# Altium integrated library Microchip Microcontroller 8-Bit PIC16.IntLib: 1529 symbols (part 23 of 55)
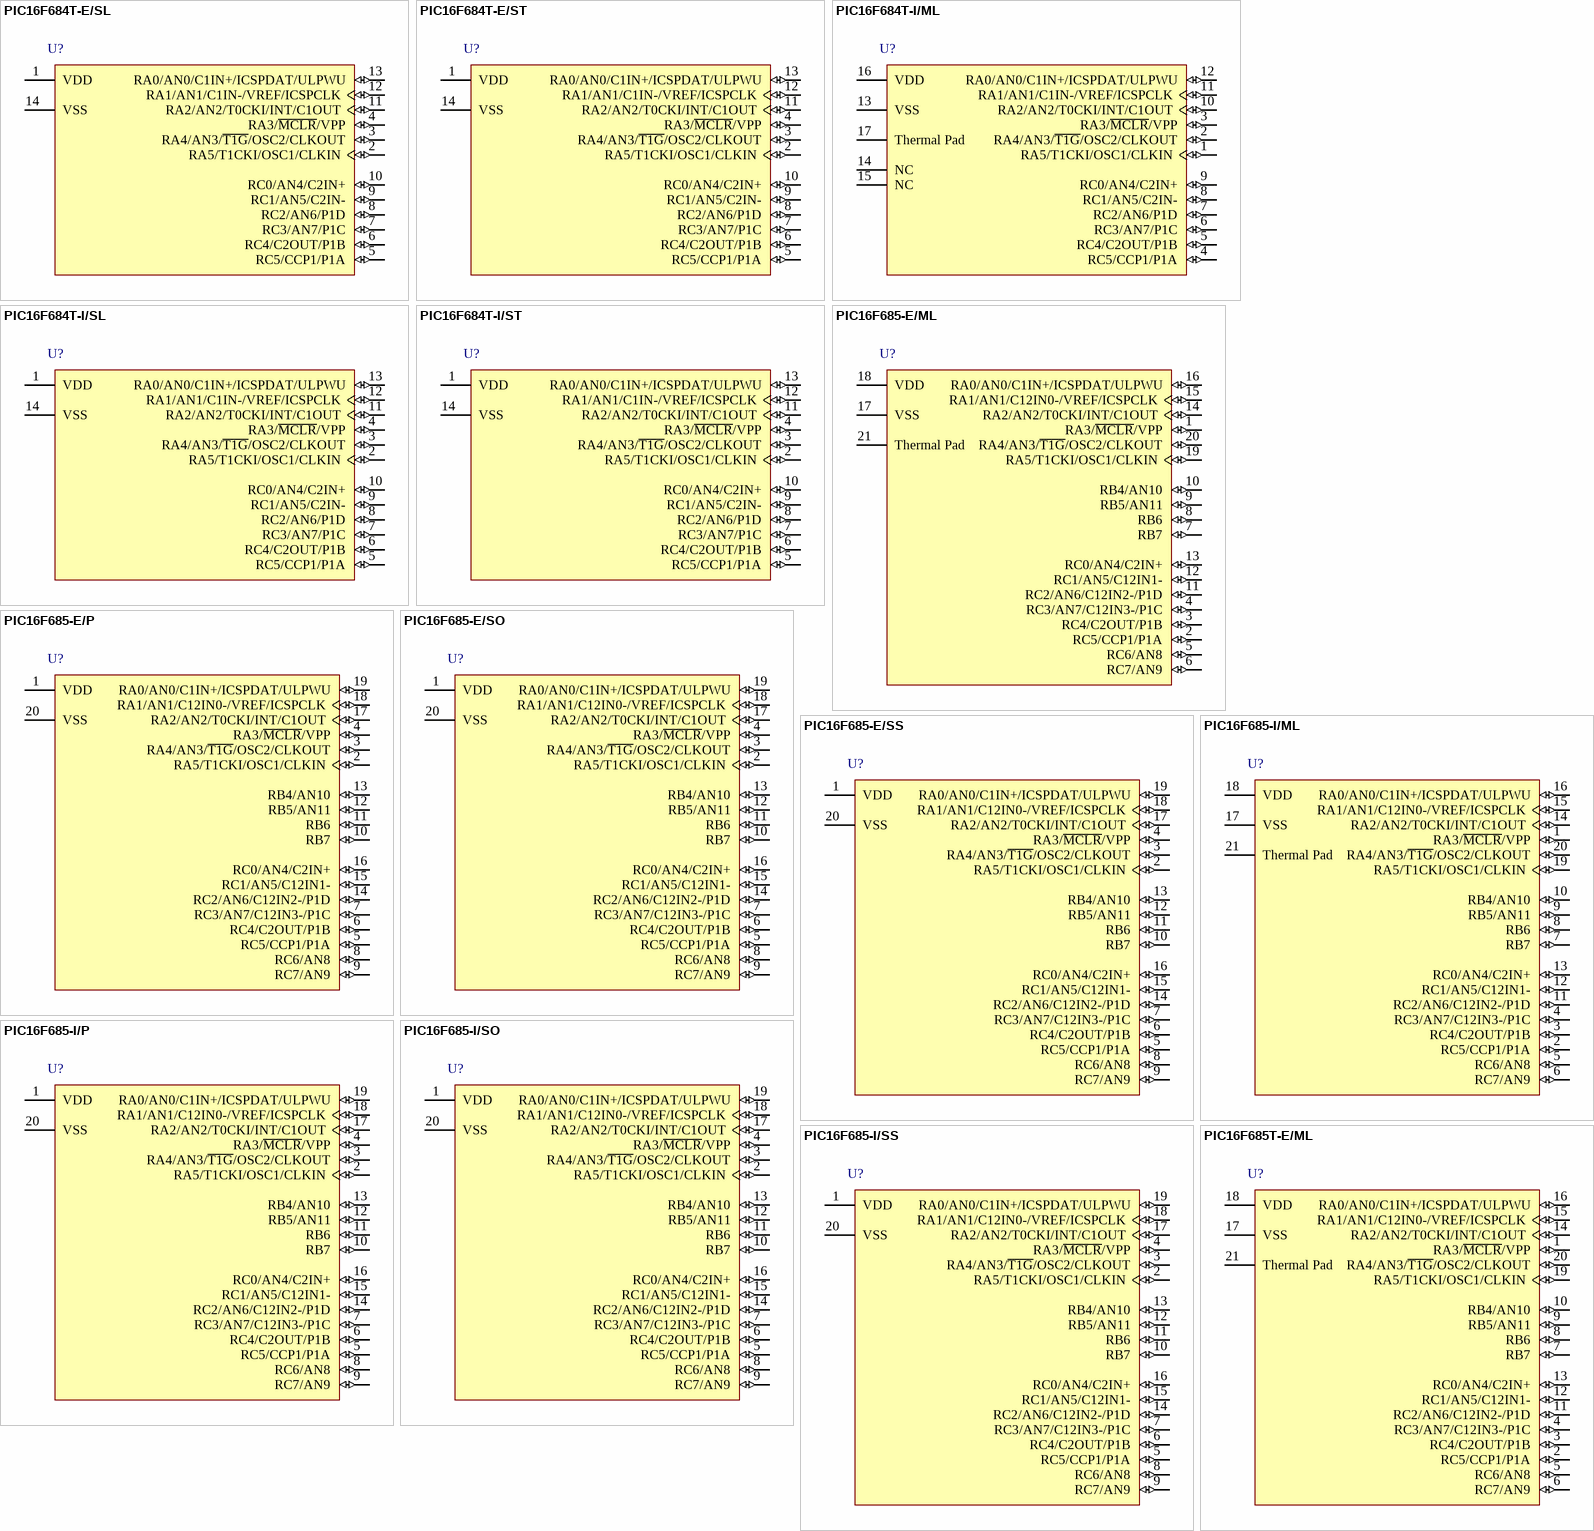
[diagram p140: symbols PIC16F684T-E/SL to PIC16F685T-E/ML]

## PIC16F685-I/P
designator U?
Flash-Based, 8-Bit CMOS Microcontroller with nanoWatt Technology, 4K (x14-Bit words) Program Memory, 512 Bytes Data Memory, 18 I/O pins, 20-Pin PDIP, Standard VDD Range, Industrial Temperature; Published: 29-Jan-2009; DatasheetVersion: revE, Mar-2008; PackageVersion: revBB, Aug-2009; PackageReference: PDIP300-P20; Publisher: Altium Limited; PackageDescription: 20-Lead Plastic Dual In-Line (P) - 300 mil Body [PDIP]; Supplier 1: Digi-Key; Supplier Part Number 1: PIC16F685-I/P-ND; Supplier 2: Farnell; Supplier Part Number 2: 1103399; ComponentLink1Description: Datasheet; ComponentLink1URL: http://ww1.microchip.com/downloads/en/DeviceDoc/41262E.pdf; ComponentLink2Description: Packaging Specification; ComponentLink2URL: http://www.microchip.com/stellent/groups/techpub_sg/documents/packagingspec/en012702.pdf; ComponentLink3Description: Microchip.com Home; ComponentLink3URL: http://www.microchip.com/
footprint PDIP300-P20 (DIP, 20-Leads, Row Spacing 7.62mm, Pitch 2.54mm, Body 25.9x6.6mm)
pins: 1 VDD (power), 2 RA5/T1CKI/OSC1/CLKIN (io), 3 RA4/AN3/~{T1G}/OSC2/CLKOUT (io), 4 RA3/~{MCLR}/VPP (io), 5 RC5/CCP1/P1A (io), 6 RC4/C2OUT/P1B (io), 7 RC3/AN7/C12IN3-/P1C (io), 8 RC6/AN8 (io), 9 RC7/AN9 (io), 10 RB7 (io), 11 RB6 (io), 12 RB5/AN11 (io), 13 RB4/AN10 (io), 14 RC2/AN6/C12IN2-/P1D (io), 15 RC1/AN5/C12IN1- (io), 16 RC0/AN4/C2IN+ (io), 17 RA2/AN2/T0CKI/INT/C1OUT (io), 18 RA1/AN1/C12IN0-/VREF/ICSPCLK (io), 19 RA0/AN0/C1IN+/ICSPDAT/ULPWU (io), 20 VSS (power)

## PIC16F685-I/SO
designator U?
Flash-Based, 8-Bit CMOS Microcontroller with nanoWatt Technology, 4K (x14-Bit words) Program Memory, 512 Bytes Data Memory, 18 I/O pins, 20-Pin SOIC, Standard VDD Range, Industrial Temperature; Published: 29-Jan-2009; DatasheetVersion: revE, Mar-2008; PackageVersion: revBB, Aug-2009; PackageReference: SOIC-SO20; Publisher: Altium Limited; PackageDescription: 20-Lead Plastic Small Outline (SO) - Wide 7.50mm Body [SOIC]; Supplier 1: Digi-Key; Supplier Part Number 1: PIC16F685-I/SO-ND; Supplier 2: Farnell; Supplier Part Number 2: 1332210; Code_JEDEC: MS-013-AC; Code_IPC: SOIC127P1030-20; ComponentLink1Description: Datasheet; ComponentLink1URL: http://ww1.microchip.com/downloads/en/DeviceDoc/41262E.pdf; ComponentLink2Description: Packaging Specification; ComponentLink2URL: http://www.microchip.com/stellent/groups/techpub_sg/documents/packagingspec/en012702.pdf; ComponentLink3Description: Microchip.com Home; ComponentLink3URL: http://www.microchip.com/
footprint SOIC-SO20_N (SOIC, 20-Leads, Body 12.8x7.5mm, Pitch 1.27mm, IPC Medium Density)
footprint SOIC-SO20_L (SOIC, 20-Leads, Body 12.8x7.5mm, Pitch 1.27mm, IPC High Density)
footprint SOIC-SO20_M (SOIC, 20-Leads, Body 12.8x7.5mm, Pitch 1.27mm, IPC Low Density)
pins: 1 VDD (power), 2 RA5/T1CKI/OSC1/CLKIN (io), 3 RA4/AN3/~{T1G}/OSC2/CLKOUT (io), 4 RA3/~{MCLR}/VPP (io), 5 RC5/CCP1/P1A (io), 6 RC4/C2OUT/P1B (io), 7 RC3/AN7/C12IN3-/P1C (io), 8 RC6/AN8 (io), 9 RC7/AN9 (io), 10 RB7 (io), 11 RB6 (io), 12 RB5/AN11 (io), 13 RB4/AN10 (io), 14 RC2/AN6/C12IN2-/P1D (io), 15 RC1/AN5/C12IN1- (io), 16 RC0/AN4/C2IN+ (io), 17 RA2/AN2/T0CKI/INT/C1OUT (io), 18 RA1/AN1/C12IN0-/VREF/ICSPCLK (io), 19 RA0/AN0/C1IN+/ICSPDAT/ULPWU (io), 20 VSS (power)

## PIC16F685-I/SS
designator U?
Flash-Based, 8-Bit CMOS Microcontroller with nanoWatt Technology, 4K (x14-Bit words) Program Memory, 512 Bytes Data Memory, 18 I/O pins, 20-Pin SSOP, Standard VDD Range, Industrial Temperature; Published: 29-Jan-2009; DatasheetVersion: revE, Mar-2008; PackageVersion: revBB, Aug-2009; PackageReference: SSOP-SS20; Publisher: Altium Limited; PackageDescription: 20-Lead Plastic Shrink Small Outline (SS) - 5.3mm Body [SSOP]; Supplier 1: Digi-Key; Supplier Part Number 1: PIC16F685-I/SS-ND; Supplier 2: Farnell; Supplier Part Number 2: 1103400; Code_JEDEC: MO-150; Code_IPC: SOP65P780-20; ComponentLink1Description: Datasheet; ComponentLink1URL: http://ww1.microchip.com/downloads/en/DeviceDoc/41262E.pdf; ComponentLink2Description: Packaging Specification; ComponentLink2URL: http://www.microchip.com/stellent/groups/techpub_sg/documents/packagingspec/en012702.pdf; ComponentLink3Description: Microchip.com Home; ComponentLink3URL: http://www.microchip.com/
footprint SSOP-SS20_N (SOP, 20-Leads, Body 7.2x5.2mm, Pitch 0.65mm, IPC Medium Density)
footprint SSOP-SS20_L (SOP, 20-Leads, Body 7.2x5.2mm, Pitch 0.65mm, IPC High Density)
footprint SSOP-SS20_M (SOP, 20-Leads, Body 7.2x5.2mm, Pitch 0.65mm, IPC Low Density)
pins: 1 VDD (power), 2 RA5/T1CKI/OSC1/CLKIN (io), 3 RA4/AN3/~{T1G}/OSC2/CLKOUT (io), 4 RA3/~{MCLR}/VPP (io), 5 RC5/CCP1/P1A (io), 6 RC4/C2OUT/P1B (io), 7 RC3/AN7/C12IN3-/P1C (io), 8 RC6/AN8 (io), 9 RC7/AN9 (io), 10 RB7 (io), 11 RB6 (io), 12 RB5/AN11 (io), 13 RB4/AN10 (io), 14 RC2/AN6/C12IN2-/P1D (io), 15 RC1/AN5/C12IN1- (io), 16 RC0/AN4/C2IN+ (io), 17 RA2/AN2/T0CKI/INT/C1OUT (io), 18 RA1/AN1/C12IN0-/VREF/ICSPCLK (io), 19 RA0/AN0/C1IN+/ICSPDAT/ULPWU (io), 20 VSS (power)

## PIC16F685T-E/ML
designator U?
Flash-Based, 8-Bit CMOS Microcontroller with nanoWatt Technology, 4K (x14-Bit words) Program Memory, 512 Bytes Data Memory, 18 I/O pins, 20-Pin QFN, Standard VDD Range, Extended Temperature, Tape and Reel; Published: 29-Jan-2009; DatasheetVersion: revE, Mar-2008; PackageVersion: revBB, Aug-2009; PackageReference: QFN-ML20; Publisher: Altium Limited; PackageDescription: 20-Lead Plastic Quad Flat, No Lead Package (ML) - 4x4x0.9 mm Body [QFN]; ComponentLink1Description: Datasheet; ComponentLink1URL: http://ww1.microchip.com/downloads/en/DeviceDoc/41262E.pdf; ComponentLink2Description: Packaging Specification; ComponentLink2URL: http://www.microchip.com/stellent/groups/techpub_sg/documents/packagingspec/en012702.pdf; ComponentLink3Description: Microchip.com Home; ComponentLink3URL: http://www.microchip.com/
footprint QFN-ML20_N (QFN, 20-Leads, Body 4x4mm, Pitch 0.5mm, IPC Medium Density)
footprint QFN-ML20_L (QFN, 20-Leads, Body 4x4mm, Pitch 0.5mm, IPC High Density)
footprint QFN-ML20_M (QFN, 20-Leads, Body 4x4mm, Pitch 0.5mm, IPC Low Density)
pins: 1 RA3/~{MCLR}/VPP (io), 2 RC5/CCP1/P1A (io), 3 RC4/C2OUT/P1B (io), 4 RC3/AN7/C12IN3-/P1C (io), 5 RC6/AN8 (io), 6 RC7/AN9 (io), 7 RB7 (io), 8 RB6 (io), 9 RB5/AN11 (io), 10 RB4/AN10 (io), 11 RC2/AN6/C12IN2-/P1D (io), 12 RC1/AN5/C12IN1- (io), 13 RC0/AN4/C2IN+ (io), 14 RA2/AN2/T0CKI/INT/C1OUT (io), 15 RA1/AN1/C12IN0-/VREF/ICSPCLK (io), 16 RA0/AN0/C1IN+/ICSPDAT/ULPWU (io), 17 VSS (power), 18 VDD (power), 19 RA5/T1CKI/OSC1/CLKIN (io), 20 RA4/AN3/~{T1G}/OSC2/CLKOUT (io), 21 Thermal Pad

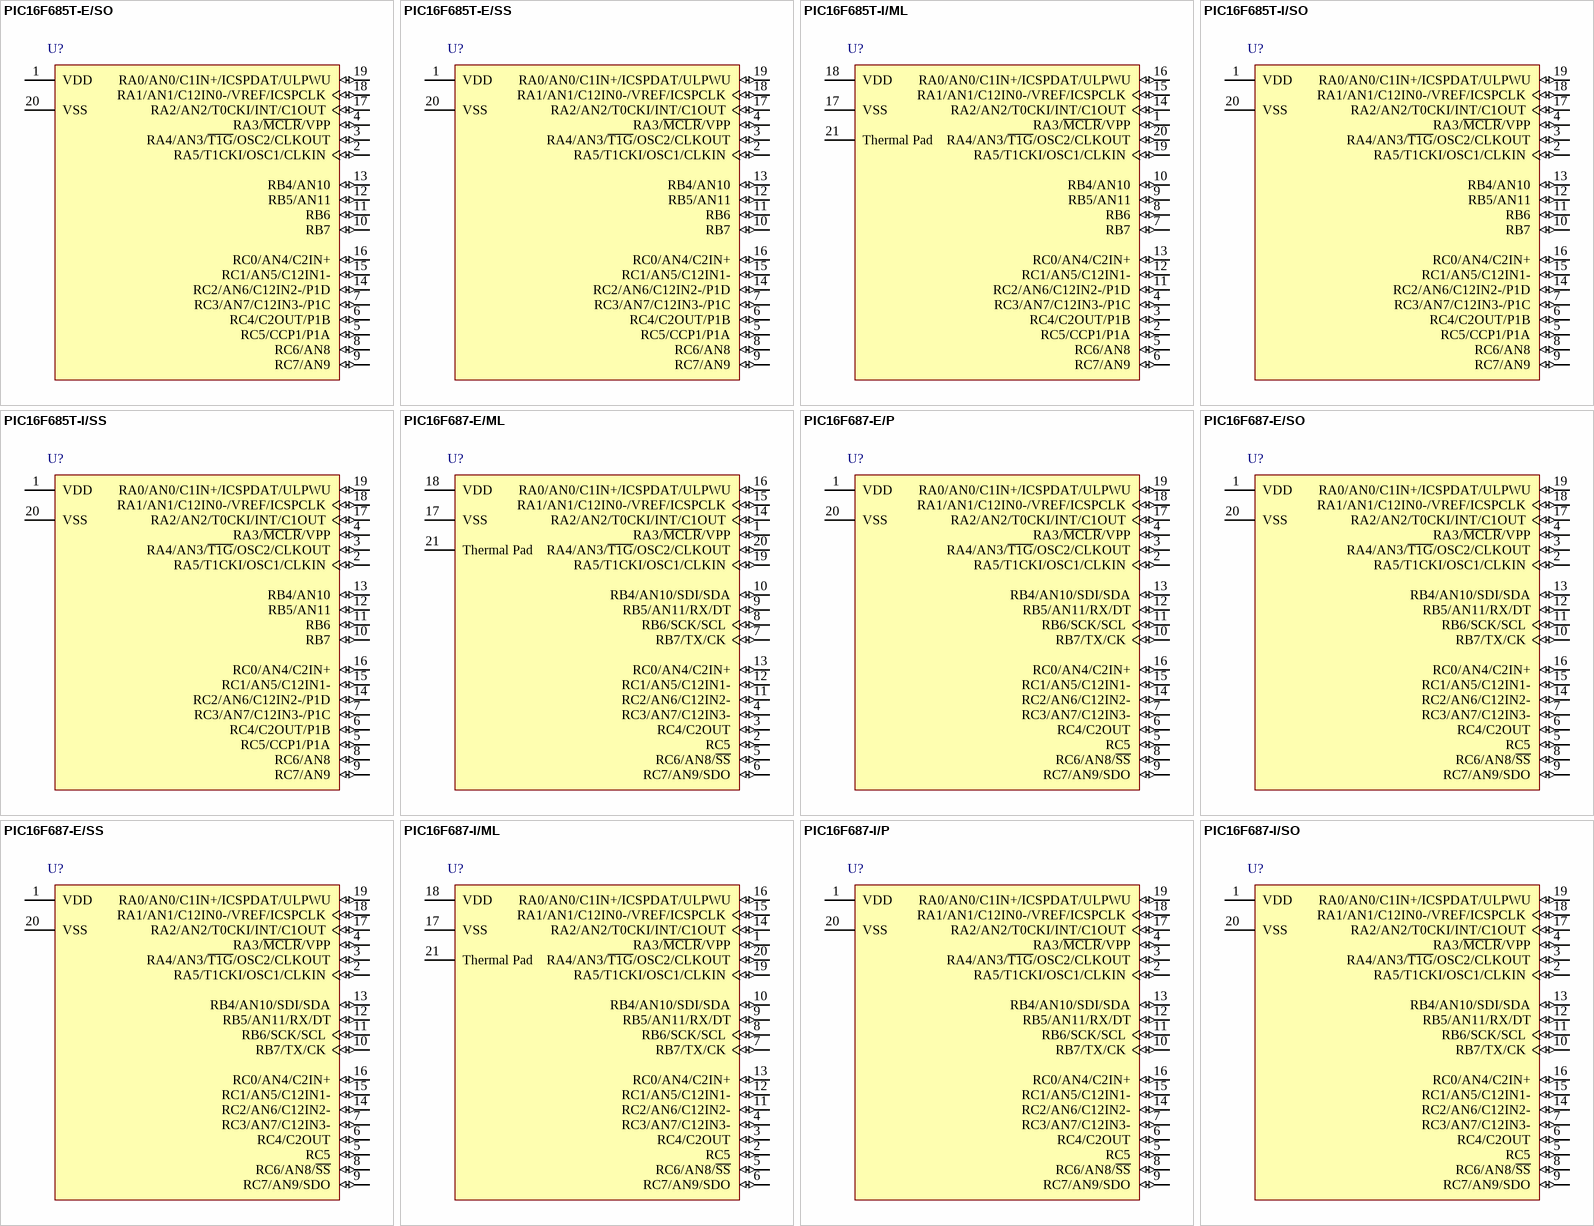
[diagram p43: symbols PIC16F685T-E/SO to PIC16F687-I/SO]

## PIC16F685T-E/SO
designator U?
Flash-Based, 8-Bit CMOS Microcontroller with nanoWatt Technology, 4K (x14-Bit words) Program Memory, 512 Bytes Data Memory, 18 I/O pins, 20-Pin SOIC, Standard VDD Range, Extended Temperature, Tape and Reel; Published: 29-Jan-2009; DatasheetVersion: revE, Mar-2008; PackageVersion: revBB, Aug-2009; PackageReference: SOIC-SO20; Publisher: Altium Limited; PackageDescription: 20-Lead Plastic Small Outline (SO) - Wide 7.50mm Body [SOIC]; Code_JEDEC: MS-013-AC; Code_IPC: SOIC127P1030-20; ComponentLink1Description: Datasheet; ComponentLink1URL: http://ww1.microchip.com/downloads/en/DeviceDoc/41262E.pdf; ComponentLink2Description: Packaging Specification; ComponentLink2URL: http://www.microchip.com/stellent/groups/techpub_sg/documents/packagingspec/en012702.pdf; ComponentLink3Description: Microchip.com Home; ComponentLink3URL: http://www.microchip.com/
footprint SOIC-SO20_N (SOIC, 20-Leads, Body 12.8x7.5mm, Pitch 1.27mm, IPC Medium Density)
footprint SOIC-SO20_L (SOIC, 20-Leads, Body 12.8x7.5mm, Pitch 1.27mm, IPC High Density)
footprint SOIC-SO20_M (SOIC, 20-Leads, Body 12.8x7.5mm, Pitch 1.27mm, IPC Low Density)
pins: 1 VDD (power), 2 RA5/T1CKI/OSC1/CLKIN (io), 3 RA4/AN3/~{T1G}/OSC2/CLKOUT (io), 4 RA3/~{MCLR}/VPP (io), 5 RC5/CCP1/P1A (io), 6 RC4/C2OUT/P1B (io), 7 RC3/AN7/C12IN3-/P1C (io), 8 RC6/AN8 (io), 9 RC7/AN9 (io), 10 RB7 (io), 11 RB6 (io), 12 RB5/AN11 (io), 13 RB4/AN10 (io), 14 RC2/AN6/C12IN2-/P1D (io), 15 RC1/AN5/C12IN1- (io), 16 RC0/AN4/C2IN+ (io), 17 RA2/AN2/T0CKI/INT/C1OUT (io), 18 RA1/AN1/C12IN0-/VREF/ICSPCLK (io), 19 RA0/AN0/C1IN+/ICSPDAT/ULPWU (io), 20 VSS (power)

## PIC16F685T-E/SS
designator U?
Flash-Based, 8-Bit CMOS Microcontroller with nanoWatt Technology, 4K (x14-Bit words) Program Memory, 512 Bytes Data Memory, 18 I/O pins, 20-Pin SSOP, Standard VDD Range, Extended Temperature, Tape and Reel; Published: 29-Jan-2009; DatasheetVersion: revE, Mar-2008; PackageVersion: revBB, Aug-2009; PackageReference: SSOP-SS20; Publisher: Altium Limited; PackageDescription: 20-Lead Plastic Shrink Small Outline (SS) - 5.3mm Body [SSOP]; Supplier 1: Digi-Key; Supplier Part Number 1: PIC16F685T-E/SS-ND; Code_JEDEC: MO-150; Code_IPC: SOP65P780-20; ComponentLink1Description: Datasheet; ComponentLink1URL: http://ww1.microchip.com/downloads/en/DeviceDoc/41262E.pdf; ComponentLink2Description: Packaging Specification; ComponentLink2URL: http://www.microchip.com/stellent/groups/techpub_sg/documents/packagingspec/en012702.pdf; ComponentLink3Description: Microchip.com Home; ComponentLink3URL: http://www.microchip.com/
footprint SSOP-SS20_N (SOP, 20-Leads, Body 7.2x5.2mm, Pitch 0.65mm, IPC Medium Density)
footprint SSOP-SS20_L (SOP, 20-Leads, Body 7.2x5.2mm, Pitch 0.65mm, IPC High Density)
footprint SSOP-SS20_M (SOP, 20-Leads, Body 7.2x5.2mm, Pitch 0.65mm, IPC Low Density)
pins: 1 VDD (power), 2 RA5/T1CKI/OSC1/CLKIN (io), 3 RA4/AN3/~{T1G}/OSC2/CLKOUT (io), 4 RA3/~{MCLR}/VPP (io), 5 RC5/CCP1/P1A (io), 6 RC4/C2OUT/P1B (io), 7 RC3/AN7/C12IN3-/P1C (io), 8 RC6/AN8 (io), 9 RC7/AN9 (io), 10 RB7 (io), 11 RB6 (io), 12 RB5/AN11 (io), 13 RB4/AN10 (io), 14 RC2/AN6/C12IN2-/P1D (io), 15 RC1/AN5/C12IN1- (io), 16 RC0/AN4/C2IN+ (io), 17 RA2/AN2/T0CKI/INT/C1OUT (io), 18 RA1/AN1/C12IN0-/VREF/ICSPCLK (io), 19 RA0/AN0/C1IN+/ICSPDAT/ULPWU (io), 20 VSS (power)

## PIC16F685T-I/ML
designator U?
Flash-Based, 8-Bit CMOS Microcontroller with nanoWatt Technology, 4K (x14-Bit words) Program Memory, 512 Bytes Data Memory, 18 I/O pins, 20-Pin QFN, Standard VDD Range, Industrial Temperature, Tape and Reel; Published: 29-Jan-2009; DatasheetVersion: revE, Mar-2008; PackageVersion: revBB, Aug-2009; PackageReference: QFN-ML20; Publisher: Altium Limited; PackageDescription: 20-Lead Plastic Quad Flat, No Lead Package (ML) - 4x4x0.9 mm Body [QFN]; Supplier 1: Digi-Key; Supplier Part Number 1: PIC16F685T-I/ML-ND; ComponentLink1Description: Datasheet; ComponentLink1URL: http://ww1.microchip.com/downloads/en/DeviceDoc/41262E.pdf; ComponentLink2Description: Packaging Specification; ComponentLink2URL: http://www.microchip.com/stellent/groups/techpub_sg/documents/packagingspec/en012702.pdf; ComponentLink3Description: Microchip.com Home; ComponentLink3URL: http://www.microchip.com/
footprint QFN-ML20_N (QFN, 20-Leads, Body 4x4mm, Pitch 0.5mm, IPC Medium Density)
footprint QFN-ML20_L (QFN, 20-Leads, Body 4x4mm, Pitch 0.5mm, IPC High Density)
footprint QFN-ML20_M (QFN, 20-Leads, Body 4x4mm, Pitch 0.5mm, IPC Low Density)
pins: 1 RA3/~{MCLR}/VPP (io), 2 RC5/CCP1/P1A (io), 3 RC4/C2OUT/P1B (io), 4 RC3/AN7/C12IN3-/P1C (io), 5 RC6/AN8 (io), 6 RC7/AN9 (io), 7 RB7 (io), 8 RB6 (io), 9 RB5/AN11 (io), 10 RB4/AN10 (io), 11 RC2/AN6/C12IN2-/P1D (io), 12 RC1/AN5/C12IN1- (io), 13 RC0/AN4/C2IN+ (io), 14 RA2/AN2/T0CKI/INT/C1OUT (io), 15 RA1/AN1/C12IN0-/VREF/ICSPCLK (io), 16 RA0/AN0/C1IN+/ICSPDAT/ULPWU (io), 17 VSS (power), 18 VDD (power), 19 RA5/T1CKI/OSC1/CLKIN (io), 20 RA4/AN3/~{T1G}/OSC2/CLKOUT (io), 21 Thermal Pad

## PIC16F685T-I/SO
designator U?
Flash-Based, 8-Bit CMOS Microcontroller with nanoWatt Technology, 4K (x14-Bit words) Program Memory, 512 Bytes Data Memory, 18 I/O pins, 20-Pin SOIC, Standard VDD Range, Industrial Temperature, Tape and Reel; Published: 29-Jan-2009; DatasheetVersion: revE, Mar-2008; PackageVersion: revBB, Aug-2009; PackageReference: SOIC-SO20; Publisher: Altium Limited; PackageDescription: 20-Lead Plastic Small Outline (SO) - Wide 7.50mm Body [SOIC]; Supplier 1: Digi-Key; Supplier Part Number 1: PIC16F685T-I/SO-ND; Code_JEDEC: MS-013-AC; Code_IPC: SOIC127P1030-20; ComponentLink1Description: Datasheet; ComponentLink1URL: http://ww1.microchip.com/downloads/en/DeviceDoc/41262E.pdf; ComponentLink2Description: Packaging Specification; ComponentLink2URL: http://www.microchip.com/stellent/groups/techpub_sg/documents/packagingspec/en012702.pdf; ComponentLink3Description: Microchip.com Home; ComponentLink3URL: http://www.microchip.com/
footprint SOIC-SO20_N (SOIC, 20-Leads, Body 12.8x7.5mm, Pitch 1.27mm, IPC Medium Density)
footprint SOIC-SO20_L (SOIC, 20-Leads, Body 12.8x7.5mm, Pitch 1.27mm, IPC High Density)
footprint SOIC-SO20_M (SOIC, 20-Leads, Body 12.8x7.5mm, Pitch 1.27mm, IPC Low Density)
pins: 1 VDD (power), 2 RA5/T1CKI/OSC1/CLKIN (io), 3 RA4/AN3/~{T1G}/OSC2/CLKOUT (io), 4 RA3/~{MCLR}/VPP (io), 5 RC5/CCP1/P1A (io), 6 RC4/C2OUT/P1B (io), 7 RC3/AN7/C12IN3-/P1C (io), 8 RC6/AN8 (io), 9 RC7/AN9 (io), 10 RB7 (io), 11 RB6 (io), 12 RB5/AN11 (io), 13 RB4/AN10 (io), 14 RC2/AN6/C12IN2-/P1D (io), 15 RC1/AN5/C12IN1- (io), 16 RC0/AN4/C2IN+ (io), 17 RA2/AN2/T0CKI/INT/C1OUT (io), 18 RA1/AN1/C12IN0-/VREF/ICSPCLK (io), 19 RA0/AN0/C1IN+/ICSPDAT/ULPWU (io), 20 VSS (power)

## PIC16F685T-I/SS
designator U?
Flash-Based, 8-Bit CMOS Microcontroller with nanoWatt Technology, 4K (x14-Bit words) Program Memory, 512 Bytes Data Memory, 18 I/O pins, 20-Pin SSOP, Standard VDD Range, Industrial Temperature, Tape and Reel; Published: 29-Jan-2009; DatasheetVersion: revE, Mar-2008; PackageVersion: revBB, Aug-2009; PackageReference: SSOP-SS20; Publisher: Altium Limited; PackageDescription: 20-Lead Plastic Shrink Small Outline (SS) - 5.3mm Body [SSOP]; Supplier 1: Digi-Key; Supplier Part Number 1: PIC16F685T-I/SS-ND; Code_JEDEC: MO-150; Code_IPC: SOP65P780-20; ComponentLink1Description: Datasheet; ComponentLink1URL: http://ww1.microchip.com/downloads/en/DeviceDoc/41262E.pdf; ComponentLink2Description: Packaging Specification; ComponentLink2URL: http://www.microchip.com/stellent/groups/techpub_sg/documents/packagingspec/en012702.pdf; ComponentLink3Description: Microchip.com Home; ComponentLink3URL: http://www.microchip.com/
footprint SSOP-SS20_N (SOP, 20-Leads, Body 7.2x5.2mm, Pitch 0.65mm, IPC Medium Density)
footprint SSOP-SS20_L (SOP, 20-Leads, Body 7.2x5.2mm, Pitch 0.65mm, IPC High Density)
footprint SSOP-SS20_M (SOP, 20-Leads, Body 7.2x5.2mm, Pitch 0.65mm, IPC Low Density)
pins: 1 VDD (power), 2 RA5/T1CKI/OSC1/CLKIN (io), 3 RA4/AN3/~{T1G}/OSC2/CLKOUT (io), 4 RA3/~{MCLR}/VPP (io), 5 RC5/CCP1/P1A (io), 6 RC4/C2OUT/P1B (io), 7 RC3/AN7/C12IN3-/P1C (io), 8 RC6/AN8 (io), 9 RC7/AN9 (io), 10 RB7 (io), 11 RB6 (io), 12 RB5/AN11 (io), 13 RB4/AN10 (io), 14 RC2/AN6/C12IN2-/P1D (io), 15 RC1/AN5/C12IN1- (io), 16 RC0/AN4/C2IN+ (io), 17 RA2/AN2/T0CKI/INT/C1OUT (io), 18 RA1/AN1/C12IN0-/VREF/ICSPCLK (io), 19 RA0/AN0/C1IN+/ICSPDAT/ULPWU (io), 20 VSS (power)

## PIC16F687-E/ML
designator U?
Flash-Based, 8-Bit CMOS Microcontroller with nanoWatt Technology, 2K (x14-Bit words) Program Memory, 384 Bytes Data Memory, 18 I/O pins, 20-Pin QFN, Standard VDD Range, Extended Temperature; Published: 29-Jan-2009; DatasheetVersion: revE, Mar-2008; PackageVersion: revBB, Aug-2009; PackageReference: QFN-ML20; Publisher: Altium Limited; PackageDescription: 20-Lead Plastic Quad Flat, No Lead Package (ML) - 4x4x0.9 mm Body [QFN]; Supplier 1: Digi-Key; Supplier Part Number 1: PIC16F687-E/ML-ND; ComponentLink1Description: Datasheet; ComponentLink1URL: http://ww1.microchip.com/downloads/en/DeviceDoc/41262E.pdf; ComponentLink2Description: Packaging Specification; ComponentLink2URL: http://www.microchip.com/stellent/groups/techpub_sg/documents/packagingspec/en012702.pdf; ComponentLink3Description: Microchip.com Home; ComponentLink3URL: http://www.microchip.com/
footprint QFN-ML20_N (QFN, 20-Leads, Body 4x4mm, Pitch 0.5mm, IPC Medium Density)
footprint QFN-ML20_L (QFN, 20-Leads, Body 4x4mm, Pitch 0.5mm, IPC High Density)
footprint QFN-ML20_M (QFN, 20-Leads, Body 4x4mm, Pitch 0.5mm, IPC Low Density)
pins: 1 RA3/~{MCLR}/VPP (io), 2 RC5 (io), 3 RC4/C2OUT (io), 4 RC3/AN7/C12IN3- (io), 5 RC6/AN8/~{SS} (io), 6 RC7/AN9/SDO (io), 7 RB7/TX/CK (io), 8 RB6/SCK/SCL (io), 9 RB5/AN11/RX/DT (io), 10 RB4/AN10/SDI/SDA (io), 11 RC2/AN6/C12IN2- (io), 12 RC1/AN5/C12IN1- (io), 13 RC0/AN4/C2IN+ (io), 14 RA2/AN2/T0CKI/INT/C1OUT (io), 15 RA1/AN1/C12IN0-/VREF/ICSPCLK (io), 16 RA0/AN0/C1IN+/ICSPDAT/ULPWU (io), 17 VSS (power), 18 VDD (power), 19 RA5/T1CKI/OSC1/CLKIN (io), 20 RA4/AN3/~{T1G}/OSC2/CLKOUT (io), 21 Thermal Pad

## PIC16F687-E/P
designator U?
Flash-Based, 8-Bit CMOS Microcontroller with nanoWatt Technology, 2K (x14-Bit words) Program Memory, 384 Bytes Data Memory, 18 I/O pins, 20-Pin PDIP, Standard VDD Range, Extended Temperature; Published: 29-Jan-2009; DatasheetVersion: revE, Mar-2008; PackageVersion: revBB, Aug-2009; PackageReference: PDIP300-P20; Publisher: Altium Limited; PackageDescription: 20-Lead Plastic Dual In-Line (P) - 300 mil Body [PDIP]; Supplier 1: Digi-Key; Supplier Part Number 1: PIC16F687-E/P-ND; ComponentLink1Description: Datasheet; ComponentLink1URL: http://ww1.microchip.com/downloads/en/DeviceDoc/41262E.pdf; ComponentLink2Description: Packaging Specification; ComponentLink2URL: http://www.microchip.com/stellent/groups/techpub_sg/documents/packagingspec/en012702.pdf; ComponentLink3Description: Microchip.com Home; ComponentLink3URL: http://www.microchip.com/
footprint PDIP300-P20 (DIP, 20-Leads, Row Spacing 7.62mm, Pitch 2.54mm, Body 25.9x6.6mm)
pins: 1 VDD (power), 2 RA5/T1CKI/OSC1/CLKIN (io), 3 RA4/AN3/~{T1G}/OSC2/CLKOUT (io), 4 RA3/~{MCLR}/VPP (io), 5 RC5 (io), 6 RC4/C2OUT (io), 7 RC3/AN7/C12IN3- (io), 8 RC6/AN8/~{SS} (io), 9 RC7/AN9/SDO (io), 10 RB7/TX/CK (io), 11 RB6/SCK/SCL (io), 12 RB5/AN11/RX/DT (io), 13 RB4/AN10/SDI/SDA (io), 14 RC2/AN6/C12IN2- (io), 15 RC1/AN5/C12IN1- (io), 16 RC0/AN4/C2IN+ (io), 17 RA2/AN2/T0CKI/INT/C1OUT (io), 18 RA1/AN1/C12IN0-/VREF/ICSPCLK (io), 19 RA0/AN0/C1IN+/ICSPDAT/ULPWU (io), 20 VSS (power)

## PIC16F687-E/SO
designator U?
Flash-Based, 8-Bit CMOS Microcontroller with nanoWatt Technology, 2K (x14-Bit words) Program Memory, 384 Bytes Data Memory, 18 I/O pins, 20-Pin SOIC, Standard VDD Range, Extended Temperature; Published: 29-Jan-2009; DatasheetVersion: revE, Mar-2008; PackageVersion: revBB, Aug-2009; PackageReference: SOIC-SO20; Publisher: Altium Limited; PackageDescription: 20-Lead Plastic Small Outline (SO) - Wide 7.50mm Body [SOIC]; Supplier 1: Digi-Key; Supplier Part Number 1: PIC16F687-E/SO-ND; Code_JEDEC: MS-013-AC; Code_IPC: SOIC127P1030-20; ComponentLink1Description: Datasheet; ComponentLink1URL: http://ww1.microchip.com/downloads/en/DeviceDoc/41262E.pdf; ComponentLink2Description: Packaging Specification; ComponentLink2URL: http://www.microchip.com/stellent/groups/techpub_sg/documents/packagingspec/en012702.pdf; ComponentLink3Description: Microchip.com Home; ComponentLink3URL: http://www.microchip.com/
footprint SOIC-SO20_N (SOIC, 20-Leads, Body 12.8x7.5mm, Pitch 1.27mm, IPC Medium Density)
footprint SOIC-SO20_L (SOIC, 20-Leads, Body 12.8x7.5mm, Pitch 1.27mm, IPC High Density)
footprint SOIC-SO20_M (SOIC, 20-Leads, Body 12.8x7.5mm, Pitch 1.27mm, IPC Low Density)
pins: 1 VDD (power), 2 RA5/T1CKI/OSC1/CLKIN (io), 3 RA4/AN3/~{T1G}/OSC2/CLKOUT (io), 4 RA3/~{MCLR}/VPP (io), 5 RC5 (io), 6 RC4/C2OUT (io), 7 RC3/AN7/C12IN3- (io), 8 RC6/AN8/~{SS} (io), 9 RC7/AN9/SDO (io), 10 RB7/TX/CK (io), 11 RB6/SCK/SCL (io), 12 RB5/AN11/RX/DT (io), 13 RB4/AN10/SDI/SDA (io), 14 RC2/AN6/C12IN2- (io), 15 RC1/AN5/C12IN1- (io), 16 RC0/AN4/C2IN+ (io), 17 RA2/AN2/T0CKI/INT/C1OUT (io), 18 RA1/AN1/C12IN0-/VREF/ICSPCLK (io), 19 RA0/AN0/C1IN+/ICSPDAT/ULPWU (io), 20 VSS (power)

## PIC16F687-E/SS
designator U?
Flash-Based, 8-Bit CMOS Microcontroller with nanoWatt Technology, 2K (x14-Bit words) Program Memory, 384 Bytes Data Memory, 18 I/O pins, 20-Pin SSOP, Standard VDD Range, Extended Temperature; Published: 29-Jan-2009; DatasheetVersion: revE, Mar-2008; PackageVersion: revBB, Aug-2009; PackageReference: SSOP-SS20; Publisher: Altium Limited; PackageDescription: 20-Lead Plastic Shrink Small Outline (SS) - 5.3mm Body [SSOP]; Supplier 1: Digi-Key; Supplier Part Number 1: PIC16F687-E/SS-ND; Code_JEDEC: MO-150; Code_IPC: SOP65P780-20; ComponentLink1Description: Datasheet; ComponentLink1URL: http://ww1.microchip.com/downloads/en/DeviceDoc/41262E.pdf; ComponentLink2Description: Packaging Specification; ComponentLink2URL: http://www.microchip.com/stellent/groups/techpub_sg/documents/packagingspec/en012702.pdf; ComponentLink3Description: Microchip.com Home; ComponentLink3URL: http://www.microchip.com/
footprint SSOP-SS20_N (SOP, 20-Leads, Body 7.2x5.2mm, Pitch 0.65mm, IPC Medium Density)
footprint SSOP-SS20_L (SOP, 20-Leads, Body 7.2x5.2mm, Pitch 0.65mm, IPC High Density)
footprint SSOP-SS20_M (SOP, 20-Leads, Body 7.2x5.2mm, Pitch 0.65mm, IPC Low Density)
pins: 1 VDD (power), 2 RA5/T1CKI/OSC1/CLKIN (io), 3 RA4/AN3/~{T1G}/OSC2/CLKOUT (io), 4 RA3/~{MCLR}/VPP (io), 5 RC5 (io), 6 RC4/C2OUT (io), 7 RC3/AN7/C12IN3- (io), 8 RC6/AN8/~{SS} (io), 9 RC7/AN9/SDO (io), 10 RB7/TX/CK (io), 11 RB6/SCK/SCL (io), 12 RB5/AN11/RX/DT (io), 13 RB4/AN10/SDI/SDA (io), 14 RC2/AN6/C12IN2- (io), 15 RC1/AN5/C12IN1- (io), 16 RC0/AN4/C2IN+ (io), 17 RA2/AN2/T0CKI/INT/C1OUT (io), 18 RA1/AN1/C12IN0-/VREF/ICSPCLK (io), 19 RA0/AN0/C1IN+/ICSPDAT/ULPWU (io), 20 VSS (power)

## PIC16F687-I/ML
designator U?
Flash-Based, 8-Bit CMOS Microcontroller with nanoWatt Technology, 2K (x14-Bit words) Program Memory, 384 Bytes Data Memory, 18 I/O pins, 20-Pin QFN, Standard VDD Range, Industrial Temperature; Published: 29-Jan-2009; DatasheetVersion: revE, Mar-2008; PackageVersion: revBB, Aug-2009; PackageReference: QFN-ML20; Publisher: Altium Limited; PackageDescription: 20-Lead Plastic Quad Flat, No Lead Package (ML) - 4x4x0.9 mm Body [QFN]; Supplier 1: Digi-Key; Supplier Part Number 1: PIC16F687-I/ML-ND; Supplier 2: Farnell; Supplier Part Number 2: 1815959; ComponentLink1Description: Datasheet; ComponentLink1URL: http://ww1.microchip.com/downloads/en/DeviceDoc/41262E.pdf; ComponentLink2Description: Packaging Specification; ComponentLink2URL: http://www.microchip.com/stellent/groups/techpub_sg/documents/packagingspec/en012702.pdf; ComponentLink3Description: Microchip.com Home; ComponentLink3URL: http://www.microchip.com/
footprint QFN-ML20_N (QFN, 20-Leads, Body 4x4mm, Pitch 0.5mm, IPC Medium Density)
footprint QFN-ML20_L (QFN, 20-Leads, Body 4x4mm, Pitch 0.5mm, IPC High Density)
footprint QFN-ML20_M (QFN, 20-Leads, Body 4x4mm, Pitch 0.5mm, IPC Low Density)
pins: 1 RA3/~{MCLR}/VPP (io), 2 RC5 (io), 3 RC4/C2OUT (io), 4 RC3/AN7/C12IN3- (io), 5 RC6/AN8/~{SS} (io), 6 RC7/AN9/SDO (io), 7 RB7/TX/CK (io), 8 RB6/SCK/SCL (io), 9 RB5/AN11/RX/DT (io), 10 RB4/AN10/SDI/SDA (io), 11 RC2/AN6/C12IN2- (io), 12 RC1/AN5/C12IN1- (io), 13 RC0/AN4/C2IN+ (io), 14 RA2/AN2/T0CKI/INT/C1OUT (io), 15 RA1/AN1/C12IN0-/VREF/ICSPCLK (io), 16 RA0/AN0/C1IN+/ICSPDAT/ULPWU (io), 17 VSS (power), 18 VDD (power), 19 RA5/T1CKI/OSC1/CLKIN (io), 20 RA4/AN3/~{T1G}/OSC2/CLKOUT (io), 21 Thermal Pad

## PIC16F687-I/P
designator U?
Flash-Based, 8-Bit CMOS Microcontroller with nanoWatt Technology, 2K (x14-Bit words) Program Memory, 384 Bytes Data Memory, 18 I/O pins, 20-Pin PDIP, Standard VDD Range, Industrial Temperature; Published: 29-Jan-2009; DatasheetVersion: revE, Mar-2008; PackageVersion: revBB, Aug-2009; PackageReference: PDIP300-P20; Publisher: Altium Limited; PackageDescription: 20-Lead Plastic Dual In-Line (P) - 300 mil Body [PDIP]; Supplier 1: Digi-Key; Supplier Part Number 1: PIC16F687-I/P-ND; Supplier 2: Farnell; Supplier Part Number 2: 1103401; ComponentLink1Description: Datasheet; ComponentLink1URL: http://ww1.microchip.com/downloads/en/DeviceDoc/41262E.pdf; ComponentLink2Description: Packaging Specification; ComponentLink2URL: http://www.microchip.com/stellent/groups/techpub_sg/documents/packagingspec/en012702.pdf; ComponentLink3Description: Microchip.com Home; ComponentLink3URL: http://www.microchip.com/
footprint PDIP300-P20 (DIP, 20-Leads, Row Spacing 7.62mm, Pitch 2.54mm, Body 25.9x6.6mm)
pins: 1 VDD (power), 2 RA5/T1CKI/OSC1/CLKIN (io), 3 RA4/AN3/~{T1G}/OSC2/CLKOUT (io), 4 RA3/~{MCLR}/VPP (io), 5 RC5 (io), 6 RC4/C2OUT (io), 7 RC3/AN7/C12IN3- (io), 8 RC6/AN8/~{SS} (io), 9 RC7/AN9/SDO (io), 10 RB7/TX/CK (io), 11 RB6/SCK/SCL (io), 12 RB5/AN11/RX/DT (io), 13 RB4/AN10/SDI/SDA (io), 14 RC2/AN6/C12IN2- (io), 15 RC1/AN5/C12IN1- (io), 16 RC0/AN4/C2IN+ (io), 17 RA2/AN2/T0CKI/INT/C1OUT (io), 18 RA1/AN1/C12IN0-/VREF/ICSPCLK (io), 19 RA0/AN0/C1IN+/ICSPDAT/ULPWU (io), 20 VSS (power)

## PIC16F687-I/SO
designator U?
Flash-Based, 8-Bit CMOS Microcontroller with nanoWatt Technology, 2K (x14-Bit words) Program Memory, 384 Bytes Data Memory, 18 I/O pins, 20-Pin SOIC, Standard VDD Range, Industrial Temperature; Published: 29-Jan-2009; DatasheetVersion: revE, Mar-2008; PackageVersion: revBB, Aug-2009; PackageReference: SOIC-SO20; Publisher: Altium Limited; PackageDescription: 20-Lead Plastic Small Outline (SO) - Wide 7.50mm Body [SOIC]; Supplier 1: Digi-Key; Supplier Part Number 1: PIC16F687-I/SO-ND; Supplier 2: Farnell; Supplier Part Number 2: 1332212; Code_JEDEC: MS-013-AC; Code_IPC: SOIC127P1030-20; ComponentLink1Description: Datasheet; ComponentLink1URL: http://ww1.microchip.com/downloads/en/DeviceDoc/41262E.pdf; ComponentLink2Description: Packaging Specification; ComponentLink2URL: http://www.microchip.com/stellent/groups/techpub_sg/documents/packagingspec/en012702.pdf; ComponentLink3Description: Microchip.com Home; ComponentLink3URL: http://www.microchip.com/
footprint SOIC-SO20_N (SOIC, 20-Leads, Body 12.8x7.5mm, Pitch 1.27mm, IPC Medium Density)
footprint SOIC-SO20_L (SOIC, 20-Leads, Body 12.8x7.5mm, Pitch 1.27mm, IPC High Density)
footprint SOIC-SO20_M (SOIC, 20-Leads, Body 12.8x7.5mm, Pitch 1.27mm, IPC Low Density)
pins: 1 VDD (power), 2 RA5/T1CKI/OSC1/CLKIN (io), 3 RA4/AN3/~{T1G}/OSC2/CLKOUT (io), 4 RA3/~{MCLR}/VPP (io), 5 RC5 (io), 6 RC4/C2OUT (io), 7 RC3/AN7/C12IN3- (io), 8 RC6/AN8/~{SS} (io), 9 RC7/AN9/SDO (io), 10 RB7/TX/CK (io), 11 RB6/SCK/SCL (io), 12 RB5/AN11/RX/DT (io), 13 RB4/AN10/SDI/SDA (io), 14 RC2/AN6/C12IN2- (io), 15 RC1/AN5/C12IN1- (io), 16 RC0/AN4/C2IN+ (io), 17 RA2/AN2/T0CKI/INT/C1OUT (io), 18 RA1/AN1/C12IN0-/VREF/ICSPCLK (io), 19 RA0/AN0/C1IN+/ICSPDAT/ULPWU (io), 20 VSS (power)

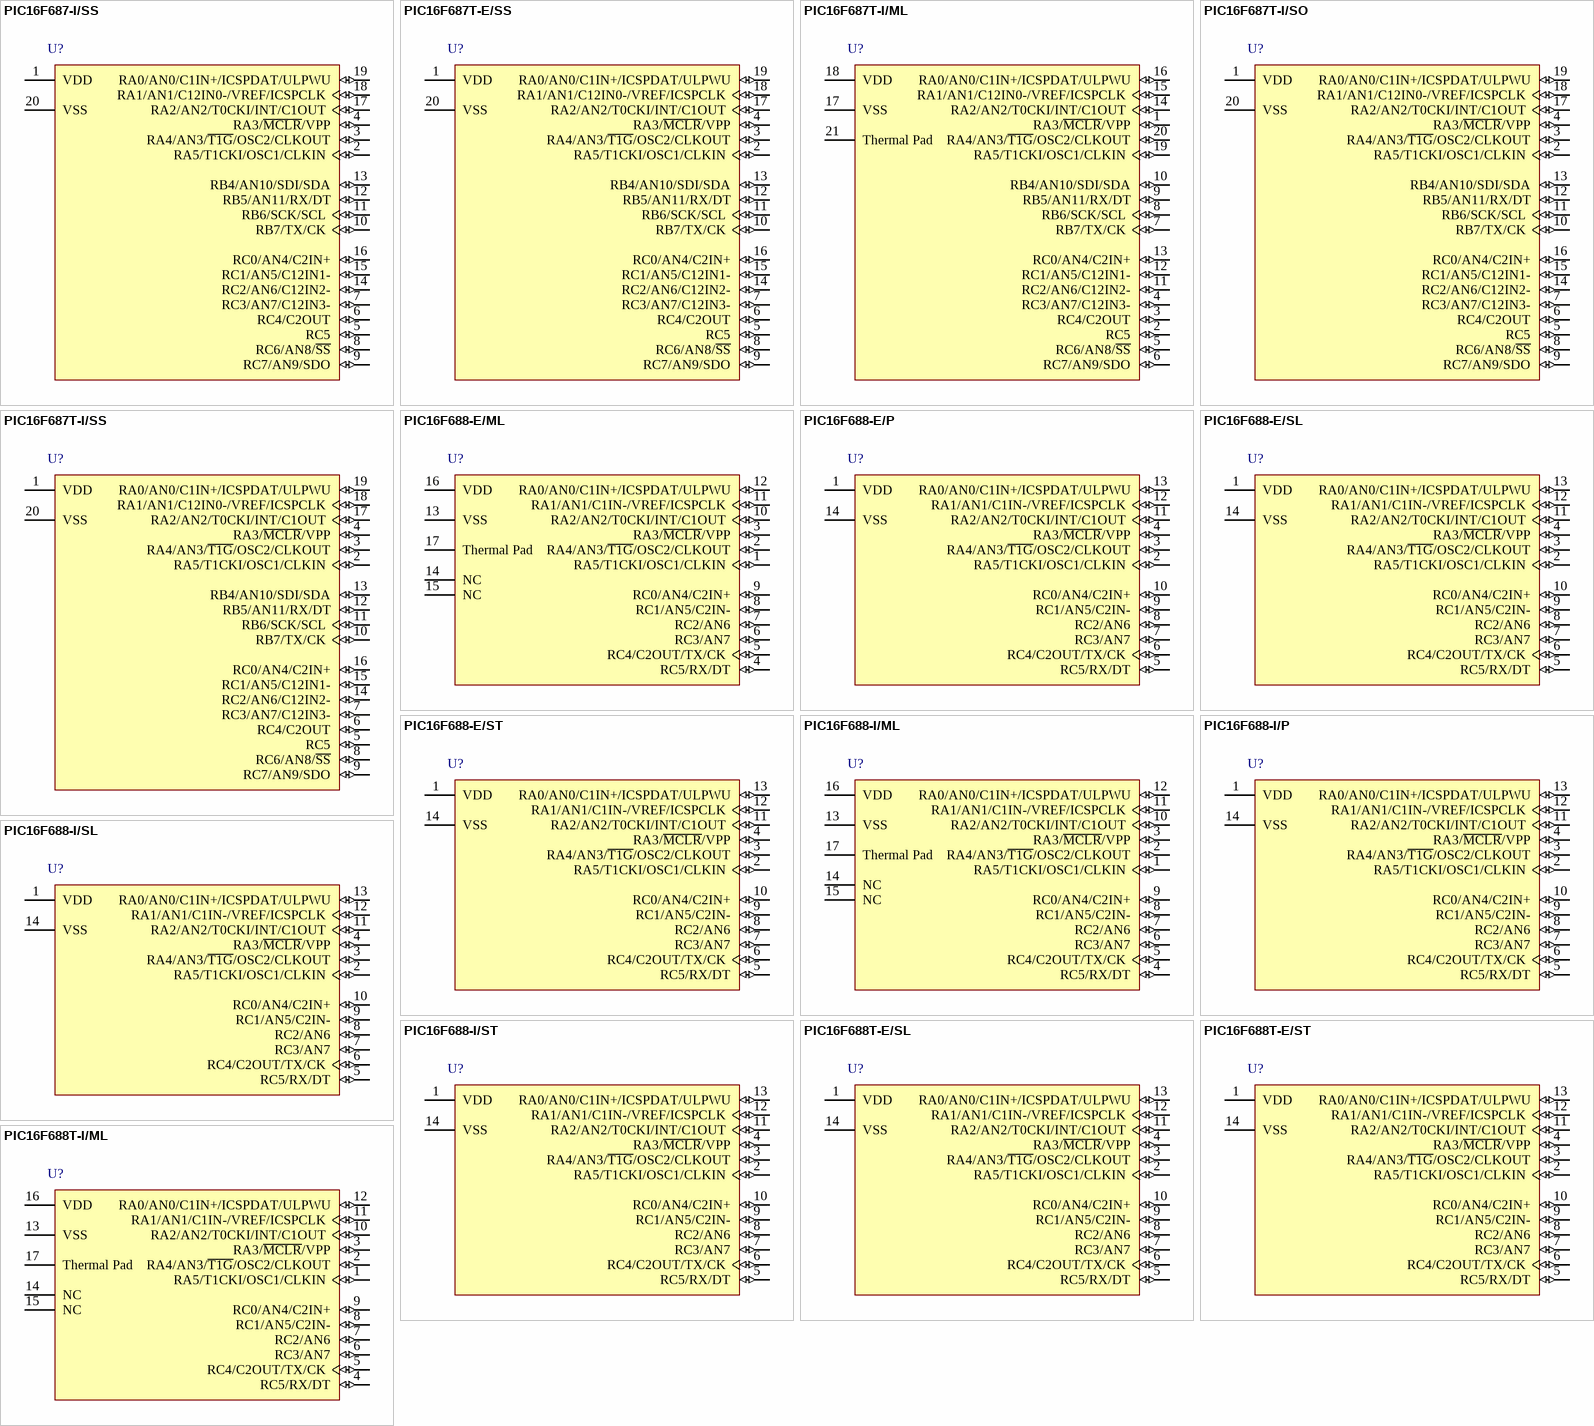
[diagram p44: symbols PIC16F687-I/SS to PIC16F688T-I/ML]

## PIC16F687-I/SS
designator U?
Flash-Based, 8-Bit CMOS Microcontroller with nanoWatt Technology, 2K (x14-Bit words) Program Memory, 384 Bytes Data Memory, 18 I/O pins, 20-Pin SSOP, Standard VDD Range, Industrial Temperature; Published: 29-Jan-2009; DatasheetVersion: revE, Mar-2008; PackageVersion: revBB, Aug-2009; PackageReference: SSOP-SS20; Publisher: Altium Limited; PackageDescription: 20-Lead Plastic Shrink Small Outline (SS) - 5.3mm Body [SSOP]; Supplier 1: Digi-Key; Supplier Part Number 1: PIC16F687-I/SS-ND; Supplier 2: Farnell; Supplier Part Number 2: 1103402; Code_JEDEC: MO-150; Code_IPC: SOP65P780-20; ComponentLink1Description: Datasheet; ComponentLink1URL: http://ww1.microchip.com/downloads/en/DeviceDoc/41262E.pdf; ComponentLink2Description: Packaging Specification; ComponentLink2URL: http://www.microchip.com/stellent/groups/techpub_sg/documents/packagingspec/en012702.pdf; ComponentLink3Description: Microchip.com Home; ComponentLink3URL: http://www.microchip.com/
footprint SSOP-SS20_N (SOP, 20-Leads, Body 7.2x5.2mm, Pitch 0.65mm, IPC Medium Density)
footprint SSOP-SS20_L (SOP, 20-Leads, Body 7.2x5.2mm, Pitch 0.65mm, IPC High Density)
footprint SSOP-SS20_M (SOP, 20-Leads, Body 7.2x5.2mm, Pitch 0.65mm, IPC Low Density)
pins: 1 VDD (power), 2 RA5/T1CKI/OSC1/CLKIN (io), 3 RA4/AN3/~{T1G}/OSC2/CLKOUT (io), 4 RA3/~{MCLR}/VPP (io), 5 RC5 (io), 6 RC4/C2OUT (io), 7 RC3/AN7/C12IN3- (io), 8 RC6/AN8/~{SS} (io), 9 RC7/AN9/SDO (io), 10 RB7/TX/CK (io), 11 RB6/SCK/SCL (io), 12 RB5/AN11/RX/DT (io), 13 RB4/AN10/SDI/SDA (io), 14 RC2/AN6/C12IN2- (io), 15 RC1/AN5/C12IN1- (io), 16 RC0/AN4/C2IN+ (io), 17 RA2/AN2/T0CKI/INT/C1OUT (io), 18 RA1/AN1/C12IN0-/VREF/ICSPCLK (io), 19 RA0/AN0/C1IN+/ICSPDAT/ULPWU (io), 20 VSS (power)

## PIC16F687T-E/SS
designator U?
Flash-Based, 8-Bit CMOS Microcontroller with nanoWatt Technology, 2K (x14-Bit words) Program Memory, 384 Bytes Data Memory, 18 I/O pins, 20-Pin SSOP, Standard VDD Range, Extended Temperature, Tape and Reel; Published: 29-Jan-2009; DatasheetVersion: revE, Mar-2008; PackageVersion: revBB, Aug-2009; PackageReference: SSOP-SS20; Publisher: Altium Limited; PackageDescription: 20-Lead Plastic Shrink Small Outline (SS) - 5.3mm Body [SSOP]; Supplier 1: Digi-Key; Supplier Part Number 1: PIC16F687T-E/SS-ND; Code_JEDEC: MO-150; Code_IPC: SOP65P780-20; ComponentLink1Description: Datasheet; ComponentLink1URL: http://ww1.microchip.com/downloads/en/DeviceDoc/41262E.pdf; ComponentLink2Description: Packaging Specification; ComponentLink2URL: http://www.microchip.com/stellent/groups/techpub_sg/documents/packagingspec/en012702.pdf; ComponentLink3Description: Microchip.com Home; ComponentLink3URL: http://www.microchip.com/
footprint SSOP-SS20_N (SOP, 20-Leads, Body 7.2x5.2mm, Pitch 0.65mm, IPC Medium Density)
footprint SSOP-SS20_L (SOP, 20-Leads, Body 7.2x5.2mm, Pitch 0.65mm, IPC High Density)
footprint SSOP-SS20_M (SOP, 20-Leads, Body 7.2x5.2mm, Pitch 0.65mm, IPC Low Density)
pins: 1 VDD (power), 2 RA5/T1CKI/OSC1/CLKIN (io), 3 RA4/AN3/~{T1G}/OSC2/CLKOUT (io), 4 RA3/~{MCLR}/VPP (io), 5 RC5 (io), 6 RC4/C2OUT (io), 7 RC3/AN7/C12IN3- (io), 8 RC6/AN8/~{SS} (io), 9 RC7/AN9/SDO (io), 10 RB7/TX/CK (io), 11 RB6/SCK/SCL (io), 12 RB5/AN11/RX/DT (io), 13 RB4/AN10/SDI/SDA (io), 14 RC2/AN6/C12IN2- (io), 15 RC1/AN5/C12IN1- (io), 16 RC0/AN4/C2IN+ (io), 17 RA2/AN2/T0CKI/INT/C1OUT (io), 18 RA1/AN1/C12IN0-/VREF/ICSPCLK (io), 19 RA0/AN0/C1IN+/ICSPDAT/ULPWU (io), 20 VSS (power)

## PIC16F687T-I/ML
designator U?
Flash-Based, 8-Bit CMOS Microcontroller with nanoWatt Technology, 2K (x14-Bit words) Program Memory, 384 Bytes Data Memory, 18 I/O pins, 20-Pin QFN, Standard VDD Range, Industrial Temperature, Tape and Reel; Published: 29-Jan-2009; DatasheetVersion: revE, Mar-2008; PackageVersion: revBB, Aug-2009; PackageReference: QFN-ML20; Publisher: Altium Limited; PackageDescription: 20-Lead Plastic Quad Flat, No Lead Package (ML) - 4x4x0.9 mm Body [QFN]; Supplier 1: Digi-Key; Supplier Part Number 1: PIC16F687T-I/ML-ND; ComponentLink1Description: Datasheet; ComponentLink1URL: http://ww1.microchip.com/downloads/en/DeviceDoc/41262E.pdf; ComponentLink2Description: Packaging Specification; ComponentLink2URL: http://www.microchip.com/stellent/groups/techpub_sg/documents/packagingspec/en012702.pdf; ComponentLink3Description: Microchip.com Home; ComponentLink3URL: http://www.microchip.com/
footprint QFN-ML20_N (QFN, 20-Leads, Body 4x4mm, Pitch 0.5mm, IPC Medium Density)
footprint QFN-ML20_L (QFN, 20-Leads, Body 4x4mm, Pitch 0.5mm, IPC High Density)
footprint QFN-ML20_M (QFN, 20-Leads, Body 4x4mm, Pitch 0.5mm, IPC Low Density)
pins: 1 RA3/~{MCLR}/VPP (io), 2 RC5 (io), 3 RC4/C2OUT (io), 4 RC3/AN7/C12IN3- (io), 5 RC6/AN8/~{SS} (io), 6 RC7/AN9/SDO (io), 7 RB7/TX/CK (io), 8 RB6/SCK/SCL (io), 9 RB5/AN11/RX/DT (io), 10 RB4/AN10/SDI/SDA (io), 11 RC2/AN6/C12IN2- (io), 12 RC1/AN5/C12IN1- (io), 13 RC0/AN4/C2IN+ (io), 14 RA2/AN2/T0CKI/INT/C1OUT (io), 15 RA1/AN1/C12IN0-/VREF/ICSPCLK (io), 16 RA0/AN0/C1IN+/ICSPDAT/ULPWU (io), 17 VSS (power), 18 VDD (power), 19 RA5/T1CKI/OSC1/CLKIN (io), 20 RA4/AN3/~{T1G}/OSC2/CLKOUT (io), 21 Thermal Pad

## PIC16F687T-I/SO
designator U?
Flash-Based, 8-Bit CMOS Microcontroller with nanoWatt Technology, 2K (x14-Bit words) Program Memory, 384 Bytes Data Memory, 18 I/O pins, 20-Pin SOIC, Standard VDD Range, Industrial Temperature, Tape and Reel; Published: 29-Jan-2009; DatasheetVersion: revE, Mar-2008; PackageVersion: revBB, Aug-2009; PackageReference: SOIC-SO20; Publisher: Altium Limited; PackageDescription: 20-Lead Plastic Small Outline (SO) - Wide 7.50mm Body [SOIC]; Supplier 1: Digi-Key; Supplier Part Number 1: PIC16F687T-I/SO-ND; Code_JEDEC: MS-013-AC; Code_IPC: SOIC127P1030-20; ComponentLink1Description: Datasheet; ComponentLink1URL: http://ww1.microchip.com/downloads/en/DeviceDoc/41262E.pdf; ComponentLink2Description: Packaging Specification; ComponentLink2URL: http://www.microchip.com/stellent/groups/techpub_sg/documents/packagingspec/en012702.pdf; ComponentLink3Description: Microchip.com Home; ComponentLink3URL: http://www.microchip.com/
footprint SOIC-SO20_N (SOIC, 20-Leads, Body 12.8x7.5mm, Pitch 1.27mm, IPC Medium Density)
footprint SOIC-SO20_L (SOIC, 20-Leads, Body 12.8x7.5mm, Pitch 1.27mm, IPC High Density)
footprint SOIC-SO20_M (SOIC, 20-Leads, Body 12.8x7.5mm, Pitch 1.27mm, IPC Low Density)
pins: 1 VDD (power), 2 RA5/T1CKI/OSC1/CLKIN (io), 3 RA4/AN3/~{T1G}/OSC2/CLKOUT (io), 4 RA3/~{MCLR}/VPP (io), 5 RC5 (io), 6 RC4/C2OUT (io), 7 RC3/AN7/C12IN3- (io), 8 RC6/AN8/~{SS} (io), 9 RC7/AN9/SDO (io), 10 RB7/TX/CK (io), 11 RB6/SCK/SCL (io), 12 RB5/AN11/RX/DT (io), 13 RB4/AN10/SDI/SDA (io), 14 RC2/AN6/C12IN2- (io), 15 RC1/AN5/C12IN1- (io), 16 RC0/AN4/C2IN+ (io), 17 RA2/AN2/T0CKI/INT/C1OUT (io), 18 RA1/AN1/C12IN0-/VREF/ICSPCLK (io), 19 RA0/AN0/C1IN+/ICSPDAT/ULPWU (io), 20 VSS (power)

## PIC16F687T-I/SS
designator U?
Flash-Based, 8-Bit CMOS Microcontroller with nanoWatt Technology, 2K (x14-Bit words) Program Memory, 384 Bytes Data Memory, 18 I/O pins, 20-Pin SSOP, Standard VDD Range, Industrial Temperature, Tape and Reel; Published: 29-Jan-2009; DatasheetVersion: revE, Mar-2008; PackageVersion: revBB, Aug-2009; PackageReference: SSOP-SS20; Publisher: Altium Limited; PackageDescription: 20-Lead Plastic Shrink Small Outline (SS) - 5.3mm Body [SSOP]; Supplier 1: Digi-Key; Supplier Part Number 1: PIC16F687T-I/SS-ND; Code_JEDEC: MO-150; Code_IPC: SOP65P780-20; ComponentLink1Description: Datasheet; ComponentLink1URL: http://ww1.microchip.com/downloads/en/DeviceDoc/41262E.pdf; ComponentLink2Description: Packaging Specification; ComponentLink2URL: http://www.microchip.com/stellent/groups/techpub_sg/documents/packagingspec/en012702.pdf; ComponentLink3Description: Microchip.com Home; ComponentLink3URL: http://www.microchip.com/
footprint SSOP-SS20_N (SOP, 20-Leads, Body 7.2x5.2mm, Pitch 0.65mm, IPC Medium Density)
footprint SSOP-SS20_L (SOP, 20-Leads, Body 7.2x5.2mm, Pitch 0.65mm, IPC High Density)
footprint SSOP-SS20_M (SOP, 20-Leads, Body 7.2x5.2mm, Pitch 0.65mm, IPC Low Density)
pins: 1 VDD (power), 2 RA5/T1CKI/OSC1/CLKIN (io), 3 RA4/AN3/~{T1G}/OSC2/CLKOUT (io), 4 RA3/~{MCLR}/VPP (io), 5 RC5 (io), 6 RC4/C2OUT (io), 7 RC3/AN7/C12IN3- (io), 8 RC6/AN8/~{SS} (io), 9 RC7/AN9/SDO (io), 10 RB7/TX/CK (io), 11 RB6/SCK/SCL (io), 12 RB5/AN11/RX/DT (io), 13 RB4/AN10/SDI/SDA (io), 14 RC2/AN6/C12IN2- (io), 15 RC1/AN5/C12IN1- (io), 16 RC0/AN4/C2IN+ (io), 17 RA2/AN2/T0CKI/INT/C1OUT (io), 18 RA1/AN1/C12IN0-/VREF/ICSPCLK (io), 19 RA0/AN0/C1IN+/ICSPDAT/ULPWU (io), 20 VSS (power)

## PIC16F688-E/ML
designator U?
Flash-Based, 8-Bit CMOS Microcontroller with nanoWatt Technology, 4K (x14-Bit words) Program Memory, 512 Bytes Data Memory, 12 I/O pins, 16-Pin QFN, Standard VDD Range, Extended Temperature; Published: 29-Jan-2009; DatasheetVersion: revD, Feb-2007; PackageVersion: revBB, Aug-2009; PackageReference: QFN-ML16; Publisher: Altium Limited; PackageDescription: 16-Lead Plastic Quad Flat, No Lead Package (ML) - 4x4x0.9 mm Body [QFN]; Supplier 1: Digi-Key; Supplier Part Number 1: PIC16F688-E/ML-ND; Code_JEDEC: MO-220; Code_IPC: QFN65P400X400-16V2; ComponentLink1Description: Datasheet; ComponentLink1URL: http://ww1.microchip.com/downloads/en/DeviceDoc/41203D.pdf; ComponentLink2Description: Packaging Specification; ComponentLink2URL: http://www.microchip.com/stellent/groups/techpub_sg/documents/packagingspec/en012702.pdf; ComponentLink3Description: Microchip.com Home; ComponentLink3URL: http://www.microchip.com/
footprint QFN-ML16_N (QFN, 16-Leads, Body 4x4 mm, Pitch 0.65mm, IPC Medium Density)
footprint QFN-ML16_L (QFN, 16-Leads, Body 4x4 mm, Pitch 0.65mm, IPC High Density)
footprint QFN-ML16_M (QFN, 16-Leads, Body 4x4 mm, Pitch 0.65mm, IPC Low Density)
pins: 1 RA5/T1CKI/OSC1/CLKIN (io), 2 RA4/AN3/~{T1G}/OSC2/CLKOUT (io), 3 RA3/~{MCLR}/VPP (io), 4 RC5/RX/DT (io), 5 RC4/C2OUT/TX/CK (io), 6 RC3/AN7 (io), 7 RC2/AN6 (io), 8 RC1/AN5/C2IN- (io), 9 RC0/AN4/C2IN+ (io), 10 RA2/AN2/T0CKI/INT/C1OUT (io), 11 RA1/AN1/C1IN-/VREF/ICSPCLK (io), 12 RA0/AN0/C1IN+/ICSPDAT/ULPWU (io), 13 VSS (power), 14 NC, 15 NC, 16 VDD (power), 17 Thermal Pad

## PIC16F688-E/P
designator U?
FLASH-Based 8-Bit CMOS Microcontroller, 10-Bit A/D, 4K (x14-Bit words) FLASH, 256 Bytes SRAM, 14-Pin PDIP, Extended Temperature; Published: 11-Oct-2004; LatestRevisionDate: 29-Jan-2009; LatestRevisionNote: Sch. layout revised. 3D Model Removed.; DatasheetVersion: revD, Feb-2007; PackageVersion: revBB, Aug-2009; PackageReference: PDIP300-P14; Publisher: Altium Limited; PackageDescription: 14-Lead Plastic Dual In-Line (P) - 300 mil Body [PDIP]; Supplier 1: Digi-Key; Supplier Part Number 1: PIC16F688-E/P-ND; ComponentLink1Description: Datasheet; ComponentLink1URL: http://ww1.microchip.com/downloads/en/DeviceDoc/41203D.pdf; ComponentLink2Description: Packaging Specification; ComponentLink2URL: http://www.microchip.com/stellent/groups/techpub_sg/documents/packagingspec/en012702.pdf; ComponentLink3Description: Microchip.com Home; ComponentLink3URL: http://www.microchip.com/
footprint PDIP300-P14 (DIP, 14-Leads, Row Spacing 7.62mm, Pitch 2.54mm, Body 19.2x6.6mm)
pins: 1 VDD (power), 2 RA5/T1CKI/OSC1/CLKIN (io), 3 RA4/AN3/~{T1G}/OSC2/CLKOUT (io), 4 RA3/~{MCLR}/VPP (io), 5 RC5/RX/DT (io), 6 RC4/C2OUT/TX/CK (io), 7 RC3/AN7 (io), 8 RC2/AN6 (io), 9 RC1/AN5/C2IN- (io), 10 RC0/AN4/C2IN+ (io), 11 RA2/AN2/T0CKI/INT/C1OUT (io), 12 RA1/AN1/C1IN-/VREF/ICSPCLK (io), 13 RA0/AN0/C1IN+/ICSPDAT/ULPWU (io), 14 VSS (power)

## PIC16F688-E/SL
designator U?
FLASH-Based 8-Bit CMOS Microcontroller, 10-Bit A/D, 4K (x14-Bit words) FLASH, 256 Bytes SRAM, 14-Pin SOIC, Extended Temperature; Published: 11-Oct-2004; LatestRevisionDate: 29-Jan-2009; LatestRevisionNote: Sch. layout revised. 3D Model Removed.; DatasheetVersion: revD, Feb-2007; PackageVersion: revBB, Aug-2009; PackageReference: SOIC-SL14; Publisher: Altium Limited; PackageDescription: 14-Lead Plastic Small Outline (SL) - Narrow, 3.90mm Body [SOIC]; Supplier 1: Digi-Key; Supplier Part Number 1: PIC16F688-E/SL-ND; Supplier 2: Farnell; Supplier Part Number 2: 1579586; Code_JEDEC: MS-012-AB; Code_IPC: SOIC127P600-14; ComponentLink1Description: Datasheet; ComponentLink1URL: http://ww1.microchip.com/downloads/en/DeviceDoc/41203D.pdf; ComponentLink2Description: Packaging Specification; ComponentLink2URL: http://www.microchip.com/stellent/groups/techpub_sg/documents/packagingspec/en012702.pdf; ComponentLink3Description: Microchip.com Home; ComponentLink3URL: http://www.microchip.com/
footprint SOIC-SL14_N (SOIC, 14-Leads, Body 8.7x3.9mm, Pitch 1.27mm, IPC Medium Density)
footprint SOIC-SL14_L (SOIC, 14-Leads, Body 8.7x3.9mm, Pitch 1.27mm, IPC High Density)
footprint SOIC-SL14_M (SOIC, 14-Leads, Body 8.7x3.9mm, Pitch 1.27mm, IPC Low Density)
pins: 1 VDD (power), 2 RA5/T1CKI/OSC1/CLKIN (io), 3 RA4/AN3/~{T1G}/OSC2/CLKOUT (io), 4 RA3/~{MCLR}/VPP (io), 5 RC5/RX/DT (io), 6 RC4/C2OUT/TX/CK (io), 7 RC3/AN7 (io), 8 RC2/AN6 (io), 9 RC1/AN5/C2IN- (io), 10 RC0/AN4/C2IN+ (io), 11 RA2/AN2/T0CKI/INT/C1OUT (io), 12 RA1/AN1/C1IN-/VREF/ICSPCLK (io), 13 RA0/AN0/C1IN+/ICSPDAT/ULPWU (io), 14 VSS (power)

## PIC16F688-E/ST
designator U?
FLASH-Based 8-Bit CMOS Microcontroller, 10-Bit A/D, 4K (x14-Bit words) FLASH, 256 Bytes SRAM, 14-Pin TSSOP, Extended Temperature; Published: 11-Oct-2004; LatestRevisionDate: 29-Jan-2009; LatestRevisionNote: Sch. layout revised. 3D Model Removed.; DatasheetVersion: revD, Feb-2007; PackageVersion: revBB, Aug-2009; PackageReference: TSSOP-ST14; Publisher: Altium Limited; PackageDescription: 14-Lead Plastic Thin Shrink Small Outline (ST) - 4.4mm Body [TSSOP]; Supplier 1: Digi-Key; Supplier Part Number 1: PIC16F688-E/ST-ND; ComponentLink1Description: Datasheet; ComponentLink1URL: http://ww1.microchip.com/downloads/en/DeviceDoc/41203D.pdf; ComponentLink2Description: Packaging Specification; ComponentLink2URL: http://www.microchip.com/stellent/groups/techpub_sg/documents/packagingspec/en012702.pdf; ComponentLink3Description: Microchip.com Home; ComponentLink3URL: http://www.microchip.com/
footprint TSSOP-ST14_N (TSOP, 14-Leads, Body 5x4.4mm, Pitch 0.65mm, IPC Medium Density)
footprint TSSOP-ST14_L (TSOP, 14-Leads, Body 5x4.4mm, Pitch 0.65mm, IPC High Density)
footprint TSSOP-ST14_M (TSOP, 14-Leads, Body 5x4.4mm, Pitch 0.65mm, IPC Low Density)
pins: 1 VDD (power), 2 RA5/T1CKI/OSC1/CLKIN (io), 3 RA4/AN3/~{T1G}/OSC2/CLKOUT (io), 4 RA3/~{MCLR}/VPP (io), 5 RC5/RX/DT (io), 6 RC4/C2OUT/TX/CK (io), 7 RC3/AN7 (io), 8 RC2/AN6 (io), 9 RC1/AN5/C2IN- (io), 10 RC0/AN4/C2IN+ (io), 11 RA2/AN2/T0CKI/INT/C1OUT (io), 12 RA1/AN1/C1IN-/VREF/ICSPCLK (io), 13 RA0/AN0/C1IN+/ICSPDAT/ULPWU (io), 14 VSS (power)

## PIC16F688-I/ML
designator U?
Flash-Based, 8-Bit CMOS Microcontroller with nanoWatt Technology, 4K (x14-Bit words) Program Memory, 512 Bytes Data Memory, 12 I/O pins, 16-Pin QFN, Standard VDD Range, Industrial Temperature; Published: 29-Jan-2009; DatasheetVersion: revD, Feb-2007; PackageVersion: revBB, Aug-2009; PackageReference: QFN-ML16; Publisher: Altium Limited; PackageDescription: 16-Lead Plastic Quad Flat, No Lead Package (ML) - 4x4x0.9 mm Body [QFN]; Supplier 1: Digi-Key; Supplier Part Number 1: PIC16F688-I/ML-ND; Supplier 2: Farnell; Supplier Part Number 2: 1579588; Code_JEDEC: MO-220; Code_IPC: QFN65P400X400-16V2; ComponentLink1Description: Datasheet; ComponentLink1URL: http://ww1.microchip.com/downloads/en/DeviceDoc/41203D.pdf; ComponentLink2Description: Packaging Specification; ComponentLink2URL: http://www.microchip.com/stellent/groups/techpub_sg/documents/packagingspec/en012702.pdf; ComponentLink3Description: Microchip.com Home; ComponentLink3URL: http://www.microchip.com/
footprint QFN-ML16_N (QFN, 16-Leads, Body 4x4 mm, Pitch 0.65mm, IPC Medium Density)
footprint QFN-ML16_L (QFN, 16-Leads, Body 4x4 mm, Pitch 0.65mm, IPC High Density)
footprint QFN-ML16_M (QFN, 16-Leads, Body 4x4 mm, Pitch 0.65mm, IPC Low Density)
pins: 1 RA5/T1CKI/OSC1/CLKIN (io), 2 RA4/AN3/~{T1G}/OSC2/CLKOUT (io), 3 RA3/~{MCLR}/VPP (io), 4 RC5/RX/DT (io), 5 RC4/C2OUT/TX/CK (io), 6 RC3/AN7 (io), 7 RC2/AN6 (io), 8 RC1/AN5/C2IN- (io), 9 RC0/AN4/C2IN+ (io), 10 RA2/AN2/T0CKI/INT/C1OUT (io), 11 RA1/AN1/C1IN-/VREF/ICSPCLK (io), 12 RA0/AN0/C1IN+/ICSPDAT/ULPWU (io), 13 VSS (power), 14 NC, 15 NC, 16 VDD (power), 17 Thermal Pad

## PIC16F688-I/P
designator U?
FLASH-Based 8-Bit CMOS Microcontroller, 10-Bit A/D, 4K (x14-Bit words) FLASH, 256 Bytes SRAM, 14-Pin PDIP, Industrial Temperature; Published: 11-Oct-2004; LatestRevisionDate: 29-Jan-2009; LatestRevisionNote: Sch. layout revised. 3D Model Removed.; DatasheetVersion: revD, Feb-2007; PackageVersion: revBB, Aug-2009; PackageReference: PDIP300-P14; Publisher: Altium Limited; PackageDescription: 14-Lead Plastic Dual In-Line (P) - 300 mil Body [PDIP]; Supplier 1: Digi-Key; Supplier Part Number 1: PIC16F688-I/P-ND; ComponentLink1Description: Datasheet; ComponentLink1URL: http://ww1.microchip.com/downloads/en/DeviceDoc/41203D.pdf; ComponentLink2Description: Packaging Specification; ComponentLink2URL: http://www.microchip.com/stellent/groups/techpub_sg/documents/packagingspec/en012702.pdf; ComponentLink3Description: Microchip.com Home; ComponentLink3URL: http://www.microchip.com/
footprint PDIP300-P14 (DIP, 14-Leads, Row Spacing 7.62mm, Pitch 2.54mm, Body 19.2x6.6mm)
pins: 1 VDD (power), 2 RA5/T1CKI/OSC1/CLKIN (io), 3 RA4/AN3/~{T1G}/OSC2/CLKOUT (io), 4 RA3/~{MCLR}/VPP (io), 5 RC5/RX/DT (io), 6 RC4/C2OUT/TX/CK (io), 7 RC3/AN7 (io), 8 RC2/AN6 (io), 9 RC1/AN5/C2IN- (io), 10 RC0/AN4/C2IN+ (io), 11 RA2/AN2/T0CKI/INT/C1OUT (io), 12 RA1/AN1/C1IN-/VREF/ICSPCLK (io), 13 RA0/AN0/C1IN+/ICSPDAT/ULPWU (io), 14 VSS (power)

## PIC16F688-I/SL
designator U?
FLASH-Based 8-Bit CMOS Microcontroller, 10-Bit A/D, 4K (x14-Bit words) FLASH, 256 Bytes SRAM, 14-Pin SOIC, Industrial Temperature; Published: 11-Oct-2004; LatestRevisionDate: 29-Jan-2009; LatestRevisionNote: Sch. layout revised. 3D Model Removed.; DatasheetVersion: revD, Feb-2007; PackageVersion: revBB, Aug-2009; PackageReference: SOIC-SL14; Publisher: Altium Limited; PackageDescription: 14-Lead Plastic Small Outline (SL) - Narrow, 3.90mm Body [SOIC]; Supplier 1: Digi-Key; Supplier Part Number 1: PIC16F688-I/SL-ND; Supplier 2: Farnell; Supplier Part Number 2: 9760571; Supplier 3: Farnell; Supplier Part Number 3: 1660021; Code_JEDEC: MS-012-AB; Code_IPC: SOIC127P600-14; ComponentLink1Description: Datasheet; ComponentLink1URL: http://ww1.microchip.com/downloads/en/DeviceDoc/41203D.pdf; ComponentLink2Description: Packaging Specification; ComponentLink2URL: http://www.microchip.com/stellent/groups/techpub_sg/documents/packagingspec/en012702.pdf; ComponentLink3Description: Microchip.com Home; ComponentLink3URL: http://www.microchip.com/
footprint SOIC-SL14_N (SOIC, 14-Leads, Body 8.7x3.9mm, Pitch 1.27mm, IPC Medium Density)
footprint SOIC-SL14_L (SOIC, 14-Leads, Body 8.7x3.9mm, Pitch 1.27mm, IPC High Density)
footprint SOIC-SL14_M (SOIC, 14-Leads, Body 8.7x3.9mm, Pitch 1.27mm, IPC Low Density)
pins: 1 VDD (power), 2 RA5/T1CKI/OSC1/CLKIN (io), 3 RA4/AN3/~{T1G}/OSC2/CLKOUT (io), 4 RA3/~{MCLR}/VPP (io), 5 RC5/RX/DT (io), 6 RC4/C2OUT/TX/CK (io), 7 RC3/AN7 (io), 8 RC2/AN6 (io), 9 RC1/AN5/C2IN- (io), 10 RC0/AN4/C2IN+ (io), 11 RA2/AN2/T0CKI/INT/C1OUT (io), 12 RA1/AN1/C1IN-/VREF/ICSPCLK (io), 13 RA0/AN0/C1IN+/ICSPDAT/ULPWU (io), 14 VSS (power)

## PIC16F688-I/ST
designator U?
FLASH-Based 8-Bit CMOS Microcontroller, 10-Bit A/D, 4K (x14-Bit words) FLASH, 256 Bytes SRAM, 14-Pin TSSOP, Industrial Temperature; Published: 11-Oct-2004; LatestRevisionDate: 29-Jan-2009; LatestRevisionNote: Sch. layout revised. 3D Model Removed.; DatasheetVersion: revD, Feb-2007; PackageVersion: revBB, Aug-2009; PackageReference: TSSOP-ST14; Publisher: Altium Limited; PackageDescription: 14-Lead Plastic Thin Shrink Small Outline (ST) - 4.4mm Body [TSSOP]; Supplier 1: Digi-Key; Supplier Part Number 1: PIC16F688-I/ST-ND; Supplier 2: Farnell; Supplier Part Number 2: 9760580; ComponentLink1Description: Datasheet; ComponentLink1URL: http://ww1.microchip.com/downloads/en/DeviceDoc/41203D.pdf; ComponentLink2Description: Packaging Specification; ComponentLink2URL: http://www.microchip.com/stellent/groups/techpub_sg/documents/packagingspec/en012702.pdf; ComponentLink3Description: Microchip.com Home; ComponentLink3URL: http://www.microchip.com/
footprint TSSOP-ST14_N (TSOP, 14-Leads, Body 5x4.4mm, Pitch 0.65mm, IPC Medium Density)
footprint TSSOP-ST14_L (TSOP, 14-Leads, Body 5x4.4mm, Pitch 0.65mm, IPC High Density)
footprint TSSOP-ST14_M (TSOP, 14-Leads, Body 5x4.4mm, Pitch 0.65mm, IPC Low Density)
pins: 1 VDD (power), 2 RA5/T1CKI/OSC1/CLKIN (io), 3 RA4/AN3/~{T1G}/OSC2/CLKOUT (io), 4 RA3/~{MCLR}/VPP (io), 5 RC5/RX/DT (io), 6 RC4/C2OUT/TX/CK (io), 7 RC3/AN7 (io), 8 RC2/AN6 (io), 9 RC1/AN5/C2IN- (io), 10 RC0/AN4/C2IN+ (io), 11 RA2/AN2/T0CKI/INT/C1OUT (io), 12 RA1/AN1/C1IN-/VREF/ICSPCLK (io), 13 RA0/AN0/C1IN+/ICSPDAT/ULPWU (io), 14 VSS (power)

## PIC16F688T-E/SL
designator U?
FLASH-Based 8-Bit CMOS Microcontroller, 10-Bit A/D, 4K (x14-Bit words) FLASH, 256 Bytes SRAM, 14-Pin SOIC, Extended Temperature, Tape and Reel; Published: 11-Oct-2004; LatestRevisionDate: 29-Jan-2009; LatestRevisionNote: Sch. layout revised. 3D Model Removed.; DatasheetVersion: revD, Feb-2007; PackageVersion: revBB, Aug-2009; PackageReference: SOIC-SL14; Publisher: Altium Limited; PackageDescription: 14-Lead Plastic Small Outline (SL) - Narrow, 3.90mm Body [SOIC]; Supplier 1: Digi-Key; Supplier Part Number 1: PIC16F688T-E/SL-ND; Code_JEDEC: MS-012-AB; Code_IPC: SOIC127P600-14; ComponentLink1Description: Datasheet; ComponentLink1URL: http://ww1.microchip.com/downloads/en/DeviceDoc/41203D.pdf; ComponentLink2Description: Packaging Specification; ComponentLink2URL: http://www.microchip.com/stellent/groups/techpub_sg/documents/packagingspec/en012702.pdf; ComponentLink3Description: Microchip.com Home; ComponentLink3URL: http://www.microchip.com/
footprint SOIC-SL14_N (SOIC, 14-Leads, Body 8.7x3.9mm, Pitch 1.27mm, IPC Medium Density)
footprint SOIC-SL14_L (SOIC, 14-Leads, Body 8.7x3.9mm, Pitch 1.27mm, IPC High Density)
footprint SOIC-SL14_M (SOIC, 14-Leads, Body 8.7x3.9mm, Pitch 1.27mm, IPC Low Density)
pins: 1 VDD (power), 2 RA5/T1CKI/OSC1/CLKIN (io), 3 RA4/AN3/~{T1G}/OSC2/CLKOUT (io), 4 RA3/~{MCLR}/VPP (io), 5 RC5/RX/DT (io), 6 RC4/C2OUT/TX/CK (io), 7 RC3/AN7 (io), 8 RC2/AN6 (io), 9 RC1/AN5/C2IN- (io), 10 RC0/AN4/C2IN+ (io), 11 RA2/AN2/T0CKI/INT/C1OUT (io), 12 RA1/AN1/C1IN-/VREF/ICSPCLK (io), 13 RA0/AN0/C1IN+/ICSPDAT/ULPWU (io), 14 VSS (power)